# EAGLE library part LTC_BY_ELEMENT14_BATCH_1_LTC4412ES6PBF (library Stackduino-SMD)
Low Loss PowerPath Controller
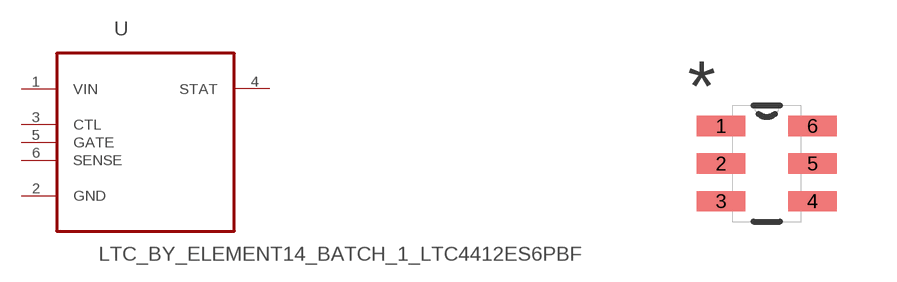
[diagram p1: symbol with the pads of LTC_BY_ELEMENT14_BATCH_1_SOT95P280X100-6N; footprint LTC_BY_ELEMENT14_BATCH_1_SOT95P280X100-6N]

Designator prefix U

## LTC_BY_ELEMENT14_BATCH_1_LTC4412ES6PBF (MPN: LTC4412ES6#PBF; OC_FARNELL: 1531480; OC_NEWARK: 61M3335; PACKAGE: TSOT-23-6; SUPPLIER: Linear Technology)  [LTC_BY_ELEMENT14_BATCH_1_SOT95P280X100-6N]
1  VIN  pwr
2  GND  pas
3  CTL  in
4  STAT  out
5  GATE  in
6  SENSE  in

## Footprint LTC_BY_ELEMENT14_BATCH_1_SOT95P280X100-6N (pad centres in mm)
smd 1.219 x 0.508: 1 -1.143,0.94; 2 -1.143,0; 3 -1.143,-0.94; 4 1.143,-0.94; 5 1.143,0; 6 1.143,0.94